# Altium footprint library preamp_pcblib.PcbLib: 4 footprints
Each footprint in its own frame and in the unit in brackets; x right, y up, seen from the top. Pads: shape width x height; smd on the part's side, far side on the other; paste and mask are expansions set on the pad; w line width, h text height; cw(c..) or ccw(c..) is an arc to the next point about the centre after c.
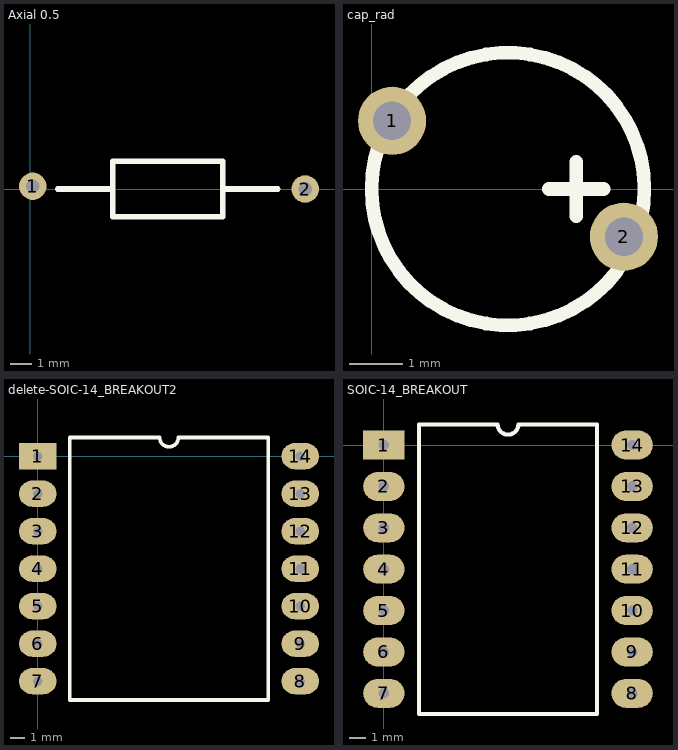
[diagram p0: the footprints below, top view; thin cyan lines are the x and y axes]

## Axial 0.5 [mil]
pads (2):
  round 50 hole 25: 1(5,5) 2(500,0)
Top Overlay:
  lines w10: 50,0 150,0 ; 350,0 450,0 ; 150,0 150,-50 350,-50 350,50 150,50 150,0
3D body "User Library-RES_AL_060W_500P.STEP": height 94.49, standoff -110.24, extent -2.88,-45 512.88,49.49

## cap_rad [mil]
pads (2):
  round 50 hole 28: 1(15,50) 2(185,-35)
Top Overlay:
  circle w10: c100,0 r100
  lines w10: 130,0 170,0 ; 150,-20 150,20
3D body "esk107m035ae3aa.stp": height 0.2, standoff -1279.53, extent -37.72,-120 230,147.72

## delete-SOIC-14_BREAKOUT2 [mil]
pads (14):
  rect 100x70 hole 25: 1(0,0)
  oval 100x70 hole 25: 2(0,-100) 3(0,-200) 4(0,-300) 5(0,-400) 6(0,-500) 7(0,-600) 8(700,-600) 9(700,-500) 10(700,-400) 11(700,-300) 12(700,-200) 13(700,-100) 14(700,0)
Top Overlay:
  lines w10: 85,-650 615,-650 615,50 375,50 cw(c350,50) 325,50 85,50 85,-650

## SOIC-14_BREAKOUT [mil]
pads (14):
  rect 100x70 hole 25: 1(0,0)
  oval 100x70 hole 25: 2(0,-100) 3(0,-200) 4(0,-300) 5(0,-400) 6(0,-500) 7(0,-600) 8(600,-600) 9(600,-500) 10(600,-400) 11(600,-300) 12(600,-200) 13(600,-100) 14(600,0)
Top Overlay:
  lines w10: 85,-650 515,-650 515,50 325,50 cw(c300,50) 275,50 85,50 85,-650